# EAGLE library part BQ27441DRZT-G1A (library BQ27441DRZT-G1A)
Check availability <https://pricing.snapeda.com/parts/BQ27441DRZT-G1A/Texas%20Instruments/view-part?ref=eda>
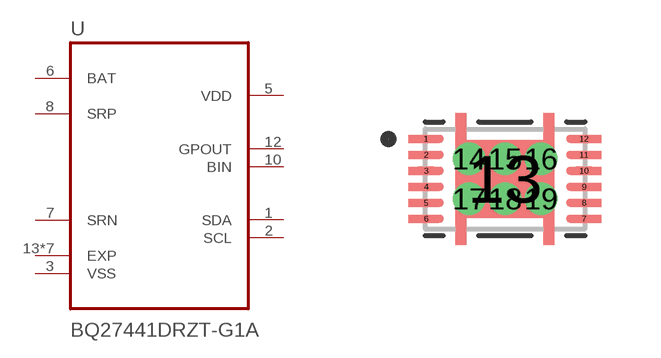
[diagram p0: symbol with the pads of IC_BQ27441DRZR-G1A; footprint IC_BQ27441DRZR-G1A]

Designator prefix U

## BQ27441DRZT-G1A (AVAILABILITY: In Stock; CHECK_PRICES: https://www.snapeda.com/parts/BQ27441DRZT-G1A/Texas+Instruments/view-part/?ref=eda; DESCRIPTION: System-side Impedance Track™ battery fuel (gas) gauge; MF: Texas Instruments; MP: BQ27441DRZT-G1A; PACKAGE: VSON-12 Texas Instruments; PRICE: None; SNAPEDA_LINK: https://www.snapeda.com/parts/BQ27441DRZT-G1A/Texas+Instruments/view-part/?ref=snap)  [IC_BQ27441DRZR-G1A]
1  SDA
2  SCL  in
3  VSS  pwr
5  VDD  pwr
6  BAT  in
7  SRN  in
8  SRP  in
10  BIN  in
12  GPOUT  out
13  EXP  pwr
14  EXP  pwr
15  EXP  pwr
16  EXP  pwr
17  EXP  pwr
18  EXP  pwr
19  EXP  pwr

## Footprint IC_BQ27441DRZR-G1A (pad centres in mm)
smd 0.4 x 0.2: 1 -1.975,1; 2 -1.975,0.6; 3 -1.975,0.2; 4 -1.975,-0.2; 5 -1.975,-0.6; 6 -1.975,-1; 7 1.975,-1; 8 1.975,-0.6; 9 1.975,-0.2; 10 1.975,0.2; 11 1.975,0.6; 12 1.975,1
smd 2.45 x 1.95: 13 0,0
drill 0.3 pad 0.5: 14 -0.9,0.5; 15 0,0.5; 16 0.9,0.5; 17 -0.9,-0.5; 18 0,-0.5; 19 0.9,-0.5